# Altium integrated library Capacitor - Aluminium TH.IntLib: 4591 symbols (part 29 of 68)
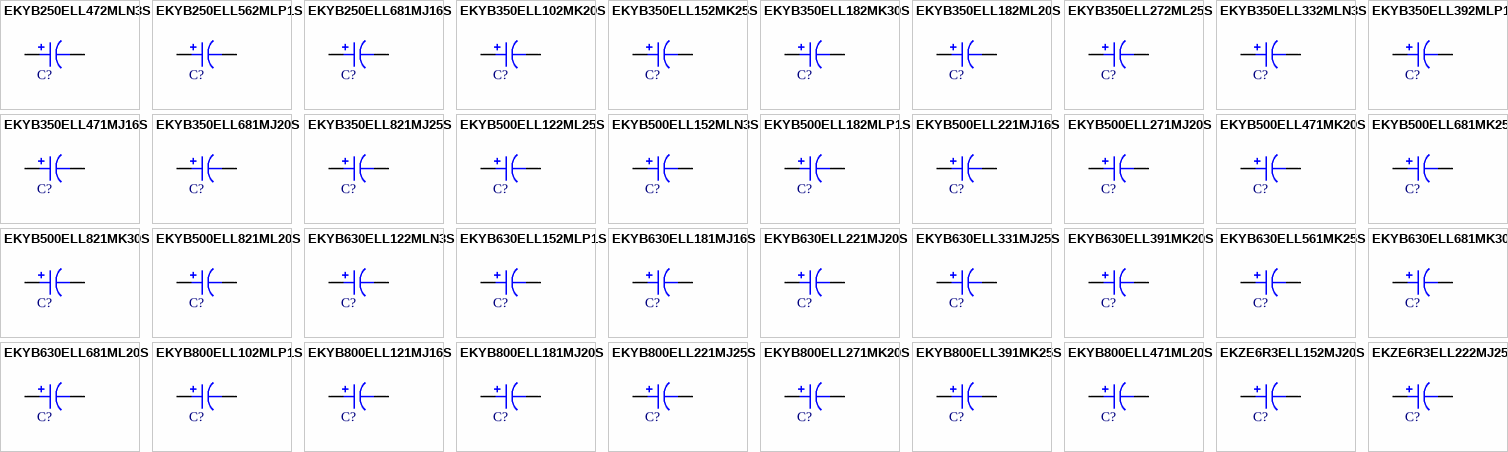
[diagram p142: symbols EKYB250ELL472MLN3S to EKZE6R3ELL222MJ25S]

## EKYB350ELL392MLP1S
designator C?, comment 3900uF  (value not drawn)
CAP ALUM 3900UF 20% 35V RADIAL; Part Number: EKYB350ELL392MLP1S; Manufacturer: United Chemi-Con; TemperatureRange: -40C ~ 105C; Type: Polar; Ripple Current: 3.06A @ 120Hz; Impedance: 14 mOhm; Value: 3900uF; PartId: 27393; Supplier 1: Digi-Key; Supplier Part Number 1: 565-3929-ND; ComponentLink1Description: Datasheet; ComponentLink1URL: http://www.chemi-con.co.jp/cgi-bin/CAT_DB/SEARCH/cat_db_al.cgi?e=e&j=p&pdfname=kyb; ComponentLink2Description: Digi-Key Listing; ComponentLink2URL: https://www.digikey.com/product-detail/en/united-chemi-con/EKYB350ELL392MLP1S/565-3929-ND/4843739; Tolerance: 20%; Voltage: 35V; Price: 1.97; Device Package: Radial, Can, 16mm
footprint CAP AL TH D16 L7.5 H37
pins: 1, 2

## EKYB350ELL471MJ16S
designator C?, comment 470uF  (value not drawn)
CAP ALUM 470UF 20% 35V RADIAL; Part Number: EKYB350ELL471MJ16S; Manufacturer: United Chemi-Con; TemperatureRange: -40C ~ 105C; Type: Polar; Ripple Current: 700mA @ 120Hz; Impedance: 49 mOhm; Value: 470uF; PartId: 25384; Supplier 1: Digi-Key; Supplier Part Number 1: 565-3915-ND; ComponentLink1Description: Datasheet; ComponentLink1URL: http://www.chemi-con.co.jp/cgi-bin/CAT_DB/SEARCH/cat_db_al.cgi?e=e&j=p&pdfname=kyb; ComponentLink2Description: Digi-Key Listing; ComponentLink2URL: https://www.digikey.com/product-detail/en/united-chemi-con/EKYB350ELL471MJ16S/565-3915-ND/4843725; Tolerance: 20%; Voltage: 35V; Price: 0.75; Device Package: Radial, Can, 10mm
footprint CAP AL TH D10 L5 H17.5
pins: 1, 2

## EKYB350ELL681MJ20S
designator C?, comment 680uF  (value not drawn)
CAP ALUM 680UF 20% 35V RADIAL; Part Number: EKYB350ELL681MJ20S; Manufacturer: United Chemi-Con; TemperatureRange: -40C ~ 105C; Type: Polar; Ripple Current: 990mA @ 120Hz; Impedance: 37 mOhm; Value: 680uF; PartId: 25644; Supplier 1: Digi-Key; Supplier Part Number 1: 565-3916-ND; ComponentLink1Description: Datasheet; ComponentLink1URL: http://www.chemi-con.co.jp/cgi-bin/CAT_DB/SEARCH/cat_db_al.cgi?e=e&j=p&pdfname=kyb; ComponentLink2Description: Digi-Key Listing; ComponentLink2URL: https://www.digikey.com/product-detail/en/united-chemi-con/EKYB350ELL681MJ20S/565-3916-ND/4843726; Tolerance: 20%; Voltage: 35V; Price: 0.74; Device Package: Radial, Can, 10mm
footprint CAP AL TH D10 L5 H22
pins: 1, 2

## EKYB350ELL821MJ25S
designator C?, comment 820uF  (value not drawn)
CAP ALUM 820UF 20% 35V RADIAL; Part Number: EKYB350ELL821MJ25S; Manufacturer: United Chemi-Con; TemperatureRange: -40C ~ 105C; Type: Polar; Ripple Current: 1.146A @ 120Hz; Impedance: 31 mOhm; Value: 820uF; PartId: 26082; Supplier 1: Digi-Key; Supplier Part Number 1: 565-3917-ND; ComponentLink1Description: Datasheet; ComponentLink1URL: http://www.chemi-con.co.jp/cgi-bin/CAT_DB/SEARCH/cat_db_al.cgi?e=e&j=p&pdfname=kyb; ComponentLink2Description: Digi-Key Listing; ComponentLink2URL: https://www.digikey.com/product-detail/en/united-chemi-con/EKYB350ELL821MJ25S/565-3917-ND/4843727; Tolerance: 20%; Voltage: 35V; Price: 0.72; Device Package: Radial, Can, 10mm
footprint CAP AL TH D10 L5 H30
pins: 1, 2

## EKYB500ELL122ML25S
designator C?, comment 1200uF  (value not drawn)
CAP ALUM 1200UF 20% 50V RADIAL; Part Number: EKYB500ELL122ML25S; Manufacturer: United Chemi-Con; TemperatureRange: -40C ~ 105C; Type: Polar; Ripple Current: 1.65A @ 120Hz; Impedance: 24 mOhm; Value: 1200uF; PartId: 26660; Supplier 1: Digi-Key; Supplier Part Number 1: 565-3950-ND; ComponentLink1Description: Datasheet; ComponentLink1URL: http://www.chemi-con.co.jp/cgi-bin/CAT_DB/SEARCH/cat_db_al.cgi?e=e&j=p&pdfname=kyb; ComponentLink2Description: Digi-Key Listing; ComponentLink2URL: https://www.digikey.com/product-detail/en/united-chemi-con/EKYB500ELL122ML25S/565-3950-ND/4843760; Tolerance: 20%; Voltage: 50V; Price: 1.61; Device Package: Radial, Can, 16mm
footprint CAP AL TH D16 L7.5 H26.5
pins: 1, 2

## EKYB500ELL152MLN3S
designator C?, comment 1500uF  (value not drawn)
CAP ALUM 1500UF 20% 50V RADIAL; Part Number: EKYB500ELL152MLN3S; Manufacturer: United Chemi-Con; TemperatureRange: -40C ~ 105C; Type: Polar; Ripple Current: 1.89A @ 120Hz; Impedance: 19 mOhm; Value: 1500uF; PartId: 27116; Supplier 1: Digi-Key; Supplier Part Number 1: 565-3951-ND; ComponentLink1Description: Datasheet; ComponentLink1URL: http://www.chemi-con.co.jp/cgi-bin/CAT_DB/SEARCH/cat_db_al.cgi?e=e&j=p&pdfname=kyb; ComponentLink2Description: Digi-Key Listing; ComponentLink2URL: https://www.digikey.com/product-detail/en/united-chemi-con/EKYB500ELL152MLN3S/565-3951-ND/4843761; Tolerance: 20%; Voltage: 50V; Price: 1.75; Device Package: Radial, Can, 16mm
footprint CAP AL TH D16 L7.5 H33.5
pins: 1, 2

## EKYB500ELL182MLP1S
designator C?, comment 1800uF  (value not drawn)
CAP ALUM 1800UF 20% 50V RADIAL; Part Number: EKYB500ELL182MLP1S; Manufacturer: United Chemi-Con; TemperatureRange: -40C ~ 105C; Type: Polar; Ripple Current: 2.13A @ 120Hz; Impedance: 16 mOhm; Value: 1800uF; PartId: 27395; Supplier 1: Digi-Key; Supplier Part Number 1: 565-3953-ND; ComponentLink1Description: Datasheet; ComponentLink1URL: http://www.chemi-con.co.jp/cgi-bin/CAT_DB/SEARCH/cat_db_al.cgi?e=e&j=p&pdfname=kyb; ComponentLink2Description: Digi-Key Listing; ComponentLink2URL: https://www.digikey.com/product-detail/en/united-chemi-con/EKYB500ELL182MLP1S/565-3953-ND/4843763; Tolerance: 20%; Voltage: 50V; Price: 1.98; Device Package: Radial, Can, 16mm
footprint CAP AL TH D16 L7.5 H37
pins: 1, 2

## EKYB500ELL221MJ16S
designator C?, comment 220uF  (value not drawn)
CAP ALUM 220UF 20% 50V RADIAL; Part Number: EKYB500ELL221MJ16S; Manufacturer: United Chemi-Con; TemperatureRange: -40C ~ 105C; Type: Polar; Ripple Current: 550mA @ 120Hz; Impedance: 69 mOhm; Value: 220uF; PartId: 25380; Supplier 1: Digi-Key; Supplier Part Number 1: 565-3939-ND; ComponentLink1Description: Datasheet; ComponentLink1URL: http://www.chemi-con.co.jp/cgi-bin/CAT_DB/SEARCH/cat_db_al.cgi?e=e&j=p&pdfname=kyb; ComponentLink2Description: Digi-Key Listing; ComponentLink2URL: https://www.digikey.com/product-detail/en/united-chemi-con/EKYB500ELL221MJ16S/565-3939-ND/4843749; Tolerance: 20%; Voltage: 50V; Price: 0.74; Device Package: Radial, Can, 10mm
footprint CAP AL TH D10 L5 H17.5
pins: 1, 2

## EKYB500ELL271MJ20S
designator C?, comment 270uF  (value not drawn)
CAP ALUM 270UF 20% 50V RADIAL; Part Number: EKYB500ELL271MJ20S; Manufacturer: United Chemi-Con; TemperatureRange: -40C ~ 105C; Type: Polar; Ripple Current: 650mA @ 120Hz; Impedance: 55 mOhm; Value: 270uF; PartId: 25642; Supplier 1: Digi-Key; Supplier Part Number 1: 565-3940-ND; ComponentLink1Description: Datasheet; ComponentLink1URL: http://www.chemi-con.co.jp/cgi-bin/CAT_DB/SEARCH/cat_db_al.cgi?e=e&j=p&pdfname=kyb; ComponentLink2Description: Digi-Key Listing; ComponentLink2URL: https://www.digikey.com/product-detail/en/united-chemi-con/EKYB500ELL271MJ20S/565-3940-ND/4843750; Tolerance: 20%; Voltage: 50V; Price: 0.73; Device Package: Radial, Can, 10mm
footprint CAP AL TH D10 L5 H22
pins: 1, 2

## EKYB500ELL471MK20S
designator C?, comment 470uF  (value not drawn)
CAP ALUM 470UF 20% 50V RADIAL; Part Number: EKYB500ELL471MK20S; Manufacturer: United Chemi-Con; TemperatureRange: -40C ~ 105C; Type: Polar; Ripple Current: 910mA @ 120Hz; Impedance: 34 mOhm; Value: 470uF; PartId: 22996; Supplier 1: Digi-Key; Supplier Part Number 1: 565-3943-ND; ComponentLink1Description: Datasheet; ComponentLink1URL: http://www.chemi-con.co.jp/cgi-bin/CAT_DB/SEARCH/cat_db_al.cgi?e=e&j=p&pdfname=kyb; ComponentLink2Description: Digi-Key Listing; ComponentLink2URL: https://www.digikey.com/product-detail/en/united-chemi-con/EKYB500ELL471MK20S/565-3943-ND/4843753; Tolerance: 20%; Voltage: 50V; Price: 0; Device Package: Radial, Can, 12.5mm
footprint CAP AL TH D12.5 L5 H21.5
pins: 1, 2

## EKYB500ELL681MK25S
designator C?, comment 680uF  (value not drawn)
CAP ALUM 680UF 20% 50V RADIAL; Part Number: EKYB500ELL681MK25S; Manufacturer: United Chemi-Con; TemperatureRange: -40C ~ 105C; Type: Polar; Ripple Current: 1.26A @ 120Hz; Impedance: 30 mOhm; Value: 680uF; PartId: 23704; Supplier 1: Digi-Key; Supplier Part Number 1: 565-3944-ND; ComponentLink1Description: Datasheet; ComponentLink1URL: http://www.chemi-con.co.jp/cgi-bin/CAT_DB/SEARCH/cat_db_al.cgi?e=e&j=p&pdfname=kyb; ComponentLink2Description: Digi-Key Listing; ComponentLink2URL: https://www.digikey.com/product-detail/en/united-chemi-con/EKYB500ELL681MK25S/565-3944-ND/4843754; Tolerance: 20%; Voltage: 50V; Price: 1.12; Device Package: Radial, Can, 12.5mm
footprint CAP AL TH D12.5 L5 H26.5
pins: 1, 2

## EKYB500ELL821MK30S
designator C?, comment 820uF  (value not drawn)
CAP ALUM 820UF 20% 50V RADIAL; Part Number: EKYB500ELL821MK30S; Manufacturer: United Chemi-Con; TemperatureRange: -40C ~ 105C; Type: Polar; Ripple Current: 1.47A @ 120Hz; Impedance: 25 mOhm; Value: 820uF; PartId: 24282; Supplier 1: Digi-Key; Supplier Part Number 1: 565-3945-ND; ComponentLink1Description: Datasheet; ComponentLink1URL: http://www.chemi-con.co.jp/cgi-bin/CAT_DB/SEARCH/cat_db_al.cgi?e=e&j=p&pdfname=kyb; ComponentLink2Description: Digi-Key Listing; ComponentLink2URL: https://www.digikey.com/product-detail/en/united-chemi-con/EKYB500ELL821MK30S/565-3945-ND/4843755; Tolerance: 20%; Voltage: 50V; Price: 1.1; Device Package: Radial, Can, 12.5mm
footprint CAP AL TH D12.5 L5 H35.5
pins: 1, 2

## EKYB500ELL821ML20S
designator C?, comment 820uF  (value not drawn)
CAP ALUM 820UF 20% 50V RADIAL; Part Number: EKYB500ELL821ML20S; Manufacturer: United Chemi-Con; TemperatureRange: -40C ~ 105C; Type: Polar; Ripple Current: 1.41A @ 120Hz; Impedance: 28 mOhm; Value: 820uF; PartId: 26427; Supplier 1: Digi-Key; Supplier Part Number 1: 565-3946-ND; ComponentLink1Description: Datasheet; ComponentLink1URL: http://www.chemi-con.co.jp/cgi-bin/CAT_DB/SEARCH/cat_db_al.cgi?e=e&j=p&pdfname=kyb; ComponentLink2Description: Digi-Key Listing; ComponentLink2URL: https://www.digikey.com/product-detail/en/united-chemi-con/EKYB500ELL821ML20S/565-3946-ND/4843756; Tolerance: 20%; Voltage: 50V; Price: 1.31; Device Package: Radial, Can, 16mm
footprint CAP AL TH D16 L7.5 H22
pins: 1, 2

## EKYB630ELL122MLN3S
designator C?, comment 1200uF  (value not drawn)
CAP ALUM 1200UF 20% 63V RADIAL; Part Number: EKYB630ELL122MLN3S; Manufacturer: United Chemi-Con; TemperatureRange: -40C ~ 105C; Type: Polar; Ripple Current: 1.8A @ 120Hz; Impedance: 20 mOhm; Value: 1200uF; PartId: 27171; Supplier 1: Digi-Key; Supplier Part Number 1: 565-3975-ND; ComponentLink1Description: Datasheet; ComponentLink1URL: http://www.chemi-con.co.jp/cgi-bin/CAT_DB/SEARCH/cat_db_al.cgi?e=e&j=p&pdfname=kyb; ComponentLink2Description: Digi-Key Listing; ComponentLink2URL: https://www.digikey.com/product-detail/en/united-chemi-con/EKYB630ELL122MLN3S/565-3975-ND/4843785; Tolerance: 20%; Voltage: 63V; Price: 1.9; Device Package: Radial, Can, 16mm
footprint CAP AL TH D16 L7.5 H33.5
pins: 1, 2

## EKYB630ELL152MLP1S
designator C?, comment 1500uF  (value not drawn)
CAP ALUM 1500UF 20% 63V RADIAL; Part Number: EKYB630ELL152MLP1S; Manufacturer: United Chemi-Con; TemperatureRange: -40C ~ 105C; Type: Polar; Ripple Current: 1.92A @ 120Hz; Impedance: 18 mOhm; Value: 1500uF; PartId: 27401; Supplier 1: Digi-Key; Supplier Part Number 1: 565-3977-ND; ComponentLink1Description: Datasheet; ComponentLink1URL: http://www.chemi-con.co.jp/cgi-bin/CAT_DB/SEARCH/cat_db_al.cgi?e=e&j=p&pdfname=kyb; ComponentLink2Description: Digi-Key Listing; ComponentLink2URL: https://www.digikey.com/product-detail/en/united-chemi-con/EKYB630ELL152MLP1S/565-3977-ND/4843787; Tolerance: 20%; Voltage: 63V; Price: 2.14; Device Package: Radial, Can, 16mm
footprint CAP AL TH D16 L7.5 H37
pins: 1, 2

## EKYB630ELL181MJ16S
designator C?, comment 180uF  (value not drawn)
CAP ALUM 180UF 20% 63V RADIAL; Part Number: EKYB630ELL181MJ16S; Manufacturer: United Chemi-Con; TemperatureRange: -40C ~ 105C; Type: Polar; Ripple Current: 420mA @ 120Hz; Impedance: 73 mOhm; Value: 180uF; PartId: 25378; Supplier 1: Digi-Key; Supplier Part Number 1: 565-3963-ND; ComponentLink1Description: Datasheet; ComponentLink1URL: http://www.chemi-con.co.jp/cgi-bin/CAT_DB/SEARCH/cat_db_al.cgi?e=e&j=p&pdfname=kyb; ComponentLink2Description: Digi-Key Listing; ComponentLink2URL: https://www.digikey.com/product-detail/en/united-chemi-con/EKYB630ELL181MJ16S/565-3963-ND/4843773; Tolerance: 20%; Voltage: 63V; Price: 0.73; Device Package: Radial, Can, 10mm
footprint CAP AL TH D10 L5 H17.5
pins: 1, 2

## EKYB630ELL221MJ20S
designator C?, comment 220uF  (value not drawn)
CAP ALUM 220UF 20% 63V RADIAL; Part Number: EKYB630ELL221MJ20S; Manufacturer: United Chemi-Con; TemperatureRange: -40C ~ 105C; Type: Polar; Ripple Current: 650mA @ 120Hz; Impedance: 55 mOhm; Value: 220uF; PartId: 25645; Supplier 1: Digi-Key; Supplier Part Number 1: 565-3964-ND; ComponentLink1Description: Datasheet; ComponentLink1URL: http://www.chemi-con.co.jp/cgi-bin/CAT_DB/SEARCH/cat_db_al.cgi?e=e&j=p&pdfname=kyb; ComponentLink2Description: Digi-Key Listing; ComponentLink2URL: https://www.digikey.com/product-detail/en/united-chemi-con/EKYB630ELL221MJ20S/565-3964-ND/4843774; Tolerance: 20%; Voltage: 63V; Price: 0.74; Device Package: Radial, Can, 10mm
footprint CAP AL TH D10 L5 H22
pins: 1, 2

## EKYB630ELL331MJ25S
designator C?, comment 330uF  (value not drawn)
CAP ALUM 330UF 20% 63V RADIAL; Part Number: EKYB630ELL331MJ25S; Manufacturer: United Chemi-Con; TemperatureRange: -40C ~ 105C; Type: Polar; Ripple Current: 775mA @ 120Hz; Impedance: 45 mOhm; Value: 330uF; PartId: 26071; Supplier 1: Digi-Key; Supplier Part Number 1: 565-3965-ND; ComponentLink1Description: Datasheet; ComponentLink1URL: http://www.chemi-con.co.jp/cgi-bin/CAT_DB/SEARCH/cat_db_al.cgi?e=e&j=p&pdfname=kyb; ComponentLink2Description: Digi-Key Listing; ComponentLink2URL: https://www.digikey.com/product-detail/en/united-chemi-con/EKYB630ELL331MJ25S/565-3965-ND/4843775; Tolerance: 20%; Voltage: 63V; Price: 0.7; Device Package: Radial, Can, 10mm
footprint CAP AL TH D10 L5 H30
pins: 1, 2

## EKYB630ELL391MK20S
designator C?, comment 390uF  (value not drawn)
CAP ALUM 390UF 20% 63V RADIAL; Part Number: EKYB630ELL391MK20S; Manufacturer: United Chemi-Con; TemperatureRange: -40C ~ 105C; Type: Polar; Ripple Current: 890mA @ 120Hz; Impedance: 36 mOhm; Value: 390uF; PartId: 23011; Supplier 1: Digi-Key; Supplier Part Number 1: 565-3967-ND; ComponentLink1Description: Datasheet; ComponentLink1URL: http://www.chemi-con.co.jp/cgi-bin/CAT_DB/SEARCH/cat_db_al.cgi?e=e&j=p&pdfname=kyb; ComponentLink2Description: Digi-Key Listing; ComponentLink2URL: https://www.digikey.com/product-detail/en/united-chemi-con/EKYB630ELL391MK20S/565-3967-ND/4843777; Tolerance: 20%; Voltage: 63V; Price: 0; Device Package: Radial, Can, 12.5mm
footprint CAP AL TH D12.5 L5 H21.5
pins: 1, 2

## EKYB630ELL561MK25S
designator C?, comment 560uF  (value not drawn)
CAP ALUM 560UF 20% 63V RADIAL; Part Number: EKYB630ELL561MK25S; Manufacturer: United Chemi-Con; TemperatureRange: -40C ~ 105C; Type: Polar; Ripple Current: 1.05A @ 120Hz; Impedance: 30 mOhm; Value: 560uF; PartId: 23694; Supplier 1: Digi-Key; Supplier Part Number 1: 565-3968-ND; ComponentLink1Description: Datasheet; ComponentLink1URL: http://www.chemi-con.co.jp/cgi-bin/CAT_DB/SEARCH/cat_db_al.cgi?e=e&j=p&pdfname=kyb; ComponentLink2Description: Digi-Key Listing; ComponentLink2URL: https://www.digikey.com/product-detail/en/united-chemi-con/EKYB630ELL561MK25S/565-3968-ND/4843778; Tolerance: 20%; Voltage: 63V; Price: 1.06; Device Package: Radial, Can, 12.5mm
footprint CAP AL TH D12.5 L5 H26.5
pins: 1, 2

## EKYB630ELL681MK30S
designator C?, comment 680uF  (value not drawn)
CAP ALUM 680UF 20% 63V RADIAL; Part Number: EKYB630ELL681MK30S; Manufacturer: United Chemi-Con; TemperatureRange: -40C ~ 105C; Type: Polar; Ripple Current: 1.449A @ 120Hz; Impedance: 26 mOhm; Value: 680uF; PartId: 24306; Supplier 1: Digi-Key; Supplier Part Number 1: 565-3969-ND; ComponentLink1Description: Datasheet; ComponentLink1URL: http://www.chemi-con.co.jp/cgi-bin/CAT_DB/SEARCH/cat_db_al.cgi?e=e&j=p&pdfname=kyb; ComponentLink2Description: Digi-Key Listing; ComponentLink2URL: https://www.digikey.com/product-detail/en/united-chemi-con/EKYB630ELL681MK30S/565-3969-ND/4843779; Tolerance: 20%; Voltage: 63V; Price: 1.22; Device Package: Radial, Can, 12.5mm
footprint CAP AL TH D12.5 L5 H35.5
pins: 1, 2

## EKYB630ELL681ML20S
designator C?, comment 680uF  (value not drawn)
CAP ALUM 680UF 20% 63V RADIAL; Part Number: EKYB630ELL681ML20S; Manufacturer: United Chemi-Con; TemperatureRange: -40C ~ 105C; Type: Polar; Ripple Current: 1.35A @ 120Hz; Impedance: 28 mOhm; Value: 680uF; PartId: 26452; Supplier 1: Digi-Key; Supplier Part Number 1: 565-3970-ND; ComponentLink1Description: Datasheet; ComponentLink1URL: http://www.chemi-con.co.jp/cgi-bin/CAT_DB/SEARCH/cat_db_al.cgi?e=e&j=p&pdfname=kyb; ComponentLink2Description: Digi-Key Listing; ComponentLink2URL: https://www.digikey.com/product-detail/en/united-chemi-con/EKYB630ELL681ML20S/565-3970-ND/4843780; Tolerance: 20%; Voltage: 63V; Price: 1.5; Device Package: Radial, Can, 16mm
footprint CAP AL TH D16 L7.5 H22
pins: 1, 2

## EKYB800ELL102MLP1S
designator C?, comment 1000uF  (value not drawn)
CAP ALUM 1000UF 20% 80V RADIAL; Part Number: EKYB800ELL102MLP1S; Manufacturer: United Chemi-Con; TemperatureRange: -40C ~ 105C; Type: Polar; Ripple Current: 1.56A @ 120Hz; Impedance: 20 mOhm; Value: 1000uF; PartId: 27407; Supplier 1: Digi-Key; Supplier Part Number 1: 565-4002-ND; ComponentLink1Description: Datasheet; ComponentLink1URL: http://www.chemi-con.co.jp/cgi-bin/CAT_DB/SEARCH/cat_db_al.cgi?e=e&j=p&pdfname=kyb; ComponentLink2Description: Digi-Key Listing; ComponentLink2URL: https://www.digikey.com/product-detail/en/united-chemi-con/EKYB800ELL102MLP1S/565-4002-ND/4843812; Tolerance: 20%; Voltage: 80V; Price: 2.28; Device Package: Radial, Can, 16mm
footprint CAP AL TH D16 L7.5 H37
pins: 1, 2

## EKYB800ELL121MJ16S
designator C?, comment 120uF  (value not drawn)
CAP ALUM 120UF 20% 80V RADIAL; Part Number: EKYB800ELL121MJ16S; Manufacturer: United Chemi-Con; TemperatureRange: -40C ~ 105C; Type: Polar; Ripple Current: 312mA @ 120Hz; Impedance: 100 mOhm; Value: 120uF; PartId: 25379; Supplier 1: Digi-Key; Supplier Part Number 1: 565-3988-ND; ComponentLink1Description: Datasheet; ComponentLink1URL: http://www.chemi-con.co.jp/cgi-bin/CAT_DB/SEARCH/cat_db_al.cgi?e=e&j=p&pdfname=kyb; ComponentLink2Description: Digi-Key Listing; ComponentLink2URL: https://www.digikey.com/product-detail/en/united-chemi-con/EKYB800ELL121MJ16S/565-3988-ND/4843798; Tolerance: 20%; Voltage: 80V; Price: 0.74; Device Package: Radial, Can, 10mm
footprint CAP AL TH D10 L5 H17.5
pins: 1, 2

## EKYB800ELL181MJ20S
designator C?, comment 180uF  (value not drawn)
CAP ALUM 180UF 20% 80V RADIAL; Part Number: EKYB800ELL181MJ20S; Manufacturer: United Chemi-Con; TemperatureRange: -40C ~ 105C; Type: Polar; Ripple Current: 416mA @ 120Hz; Impedance: 75 mOhm; Value: 180uF; PartId: 25651; Supplier 1: Digi-Key; Supplier Part Number 1: 565-3989-ND; ComponentLink1Description: Datasheet; ComponentLink1URL: http://www.chemi-con.co.jp/cgi-bin/CAT_DB/SEARCH/cat_db_al.cgi?e=e&j=p&pdfname=kyb; ComponentLink2Description: Digi-Key Listing; ComponentLink2URL: https://www.digikey.com/product-detail/en/united-chemi-con/EKYB800ELL181MJ20S/565-3989-ND/4843799; Tolerance: 20%; Voltage: 80V; Price: 0.74; Device Package: Radial, Can, 10mm
footprint CAP AL TH D10 L5 H22
pins: 1, 2

## EKYB800ELL221MJ25S
designator C?, comment 220uF  (value not drawn)
CAP ALUM 220UF 20% 80V RADIAL; Part Number: EKYB800ELL221MJ25S; Manufacturer: United Chemi-Con; TemperatureRange: -40C ~ 105C; Type: Polar; Ripple Current: 585mA @ 120Hz; Impedance: 60 mOhm; Value: 220uF; PartId: 26127; Supplier 1: Digi-Key; Supplier Part Number 1: 565-3990-ND; ComponentLink1Description: Datasheet; ComponentLink1URL: http://www.chemi-con.co.jp/cgi-bin/CAT_DB/SEARCH/cat_db_al.cgi?e=e&j=p&pdfname=kyb; ComponentLink2Description: Digi-Key Listing; ComponentLink2URL: https://www.digikey.com/product-detail/en/united-chemi-con/EKYB800ELL221MJ25S/565-3990-ND/4843800; Tolerance: 20%; Voltage: 80V; Price: 0.79; Device Package: Radial, Can, 10mm
footprint CAP AL TH D10 L5 H30
pins: 1, 2

## EKYB800ELL271MK20S
designator C?, comment 270uF  (value not drawn)
CAP ALUM 270UF 20% 80V RADIAL; Part Number: EKYB800ELL271MK20S; Manufacturer: United Chemi-Con; TemperatureRange: -40C ~ 105C; Type: Polar; Ripple Current: 715mA @ 120Hz; Impedance: 48 mOhm; Value: 270uF; PartId: 22992; Supplier 1: Digi-Key; Supplier Part Number 1: 565-3992-ND; ComponentLink1Description: Datasheet; ComponentLink1URL: http://www.chemi-con.co.jp/cgi-bin/CAT_DB/SEARCH/cat_db_al.cgi?e=e&j=p&pdfname=kyb; ComponentLink2Description: Digi-Key Listing; ComponentLink2URL: https://www.digikey.com/product-detail/en/united-chemi-con/EKYB800ELL271MK20S/565-3992-ND/4843802; Tolerance: 20%; Voltage: 80V; Price: 0; Device Package: Radial, Can, 12.5mm
footprint CAP AL TH D12.5 L5 H21.5
pins: 1, 2

## EKYB800ELL391MK25S
designator C?, comment 390uF  (value not drawn)
CAP ALUM 390UF 20% 80V RADIAL; Part Number: EKYB800ELL391MK25S; Manufacturer: United Chemi-Con; TemperatureRange: -40C ~ 105C; Type: Polar; Ripple Current: 810mA @ 120Hz; Impedance: 39 mOhm; Value: 390uF; PartId: 23668; Supplier 1: Digi-Key; Supplier Part Number 1: 565-3993-ND; ComponentLink1Description: Datasheet; ComponentLink1URL: http://www.chemi-con.co.jp/cgi-bin/CAT_DB/SEARCH/cat_db_al.cgi?e=e&j=p&pdfname=kyb; ComponentLink2Description: Digi-Key Listing; ComponentLink2URL: https://www.digikey.com/product-detail/en/united-chemi-con/EKYB800ELL391MK25S/565-3993-ND/4843803; Tolerance: 20%; Voltage: 80V; Price: 0.98; Device Package: Radial, Can, 12.5mm
footprint CAP AL TH D12.5 L5 H26.5
pins: 1, 2

## EKYB800ELL471ML20S
designator C?, comment 470uF  (value not drawn)
CAP ALUM 470UF 20% 80V RADIAL; Part Number: EKYB800ELL471ML20S; Manufacturer: United Chemi-Con; TemperatureRange: -40C ~ 105C; Type: Polar; Ripple Current: 875mA @ 120Hz; Impedance: 36 mOhm; Value: 470uF; PartId: 26426; Supplier 1: Digi-Key; Supplier Part Number 1: 565-3995-ND; ComponentLink1Description: Datasheet; ComponentLink1URL: http://www.chemi-con.co.jp/cgi-bin/CAT_DB/SEARCH/cat_db_al.cgi?e=e&j=p&pdfname=kyb; ComponentLink2Description: Digi-Key Listing; ComponentLink2URL: https://www.digikey.com/product-detail/en/united-chemi-con/EKYB800ELL471ML20S/565-3995-ND/4843805; Tolerance: 20%; Voltage: 80V; Price: 1.3; Device Package: Radial, Can, 16mm
footprint CAP AL TH D16 L7.5 H22
pins: 1, 2

## EKZE6R3ELL152MJ20S
designator C?, comment 1500uF  (value not drawn)
CAP ALUM 1500UF 20% 6.3V RADIAL; Part Number: EKZE6R3ELL152MJ20S; Manufacturer: United Chemi-Con; TemperatureRange: -40C ~ 105C; Type: Polar; Ripple Current: 1.092A @ 120Hz; Impedance: 23 mOhm; Value: 1500uF; PartId: 25545; Supplier 1: Digi-Key; Supplier Part Number 1: 565-1633-ND; ComponentLink1Description: Datasheet; ComponentLink1URL: http://www.chemi-con.co.jp/cgi-bin/CAT_DB/SEARCH/cat_db_al.cgi?e=e&j=p&pdfname=kze; ComponentLink2Description: Digi-Key Listing; ComponentLink2URL: https://www.digikey.com/product-detail/en/united-chemi-con/EKZE6R3ELL152MJ20S/565-1633-ND/756149; Tolerance: 20%; Voltage: 6.3V; Price: 0.63; Device Package: Radial, Can, 10mm
footprint CAP AL TH D10 L5 H22
pins: 1, 2

## EKZE6R3ELL222MJ25S
designator C?, comment 2200uF  (value not drawn)
CAP ALUM 2200UF 20% 6.3V RADIAL; Part Number: EKZE6R3ELL222MJ25S; Manufacturer: United Chemi-Con; TemperatureRange: -40C ~ 105C; Type: Polar; Ripple Current: 1.6125A @ 120Hz; Impedance: 22 mOhm; Value: 2200uF; PartId: 26120; Supplier 1: Digi-Key; Supplier Part Number 1: 565-1634-ND; ComponentLink1Description: Datasheet; ComponentLink1URL: http://www.chemi-con.co.jp/cgi-bin/CAT_DB/SEARCH/cat_db_al.cgi?e=e&j=p&pdfname=kze; ComponentLink2Description: Digi-Key Listing; ComponentLink2URL: https://www.digikey.com/product-detail/en/united-chemi-con/EKZE6R3ELL222MJ25S/565-1634-ND/756150; Tolerance: 20%; Voltage: 6.3V; Price: 0.78; Device Package: Radial, Can, 10mm
footprint CAP AL TH D10 L5 H30
pins: 1, 2

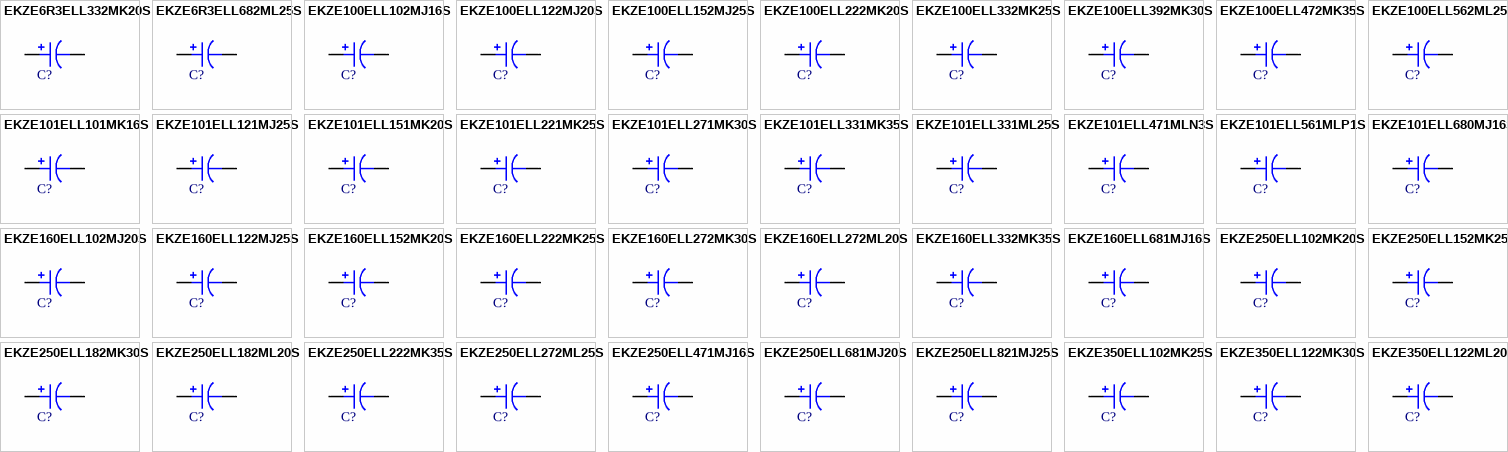
[diagram p47: symbols EKZE6R3ELL332MK20S to EKZE350ELL122ML20S]

## EKZE6R3ELL332MK20S
designator C?, comment 3300uF  (value not drawn)
CAP ALUM 3300UF 20% 6.3V RADIAL; Part Number: EKZE6R3ELL332MK20S; Manufacturer: United Chemi-Con; TemperatureRange: -40C ~ 105C; Type: Polar; Ripple Current: 1.77A @ 120Hz; Impedance: 21 mOhm; Value: 3300uF; PartId: 22929; Supplier 1: Digi-Key; Supplier Part Number 1: 565-1635-ND; ComponentLink1Description: Datasheet; ComponentLink1URL: http://www.chemi-con.co.jp/cgi-bin/CAT_DB/SEARCH/cat_db_al.cgi?e=e&j=p&pdfname=kze; ComponentLink2Description: Digi-Key Listing; ComponentLink2URL: https://www.digikey.com/product-detail/en/united-chemi-con/EKZE6R3ELL332MK20S/565-1635-ND/756151; Tolerance: 20%; Voltage: 6.3V; Price: 0; Device Package: Radial, Can, 12.5mm
footprint CAP AL TH D12.5 L5 H20
pins: 1, 2

## EKZE6R3ELL682ML25S
designator C?, comment 6800uF  (value not drawn)
CAP ALUM 6800UF 20% 6.3V RADIAL; Part Number: EKZE6R3ELL682ML25S; Manufacturer: United Chemi-Con; TemperatureRange: -40C ~ 105C; Type: Polar; Ripple Current: 2.941A @ 120Hz; Impedance: 16 mOhm; Value: 6800uF; PartId: 26655; Supplier 1: Digi-Key; Supplier Part Number 1: 565-1640-ND; ComponentLink1Description: Datasheet; ComponentLink1URL: http://www.chemi-con.co.jp/cgi-bin/CAT_DB/SEARCH/cat_db_al.cgi?e=e&j=p&pdfname=kze; ComponentLink2Description: Digi-Key Listing; ComponentLink2URL: https://www.digikey.com/product-detail/en/united-chemi-con/EKZE6R3ELL682ML25S/565-1640-ND/756156; Tolerance: 20%; Voltage: 6.3V; Price: 1.58; Device Package: Radial, Can, 16mm
footprint CAP AL TH D16 L7.5 H26.5
pins: 1, 2

## EKZE100ELL102MJ16S
designator C?, comment 1000uF  (value not drawn)
CAP ALUM 1000UF 20% 10V RADIAL; Part Number: EKZE100ELL102MJ16S; Manufacturer: United Chemi-Con; TemperatureRange: -40C ~ 105C; Type: Polar; Ripple Current: 858mA @ 120Hz; Impedance: 38 mOhm; Value: 1000uF; PartId: 25347; Supplier 1: Digi-Key; Supplier Part Number 1: 565-1646-ND; ComponentLink1Description: Datasheet; ComponentLink1URL: http://www.chemi-con.co.jp/cgi-bin/CAT_DB/SEARCH/cat_db_al.cgi?e=e&j=p&pdfname=kze; ComponentLink2Description: Digi-Key Listing; ComponentLink2URL: https://www.digikey.com/product-detail/en/united-chemi-con/EKZE100ELL102MJ16S/565-1646-ND/756162; Tolerance: 20%; Voltage: 10V; Price: 0.68; Device Package: Radial, Can, 10mm
footprint CAP AL TH D10 L5 H17.5
pins: 1, 2

## EKZE100ELL122MJ20S
designator C?, comment 1200uF  (value not drawn)
CAP ALUM 1200UF 20% 10V RADIAL; Part Number: EKZE100ELL122MJ20S; Manufacturer: United Chemi-Con; TemperatureRange: -40C ~ 105C; Type: Polar; Ripple Current: 1.092A @ 120Hz; Impedance: 23 mOhm; Value: 1200uF; PartId: 25537; Supplier 1: Digi-Key; Supplier Part Number 1: 565-1648-ND; ComponentLink1Description: Datasheet; ComponentLink1URL: http://www.chemi-con.co.jp/cgi-bin/CAT_DB/SEARCH/cat_db_al.cgi?e=e&j=p&pdfname=kze; ComponentLink2Description: Digi-Key Listing; ComponentLink2URL: https://www.digikey.com/product-detail/en/united-chemi-con/EKZE100ELL122MJ20S/565-1648-ND/756164; Tolerance: 20%; Voltage: 10V; Price: 0.62; Device Package: Radial, Can, 10mm
footprint CAP AL TH D10 L5 H22
pins: 1, 2

## EKZE100ELL152MJ25S
designator C?, comment 1500uF  (value not drawn)
CAP ALUM 1500UF 20% 10V RADIAL; Part Number: EKZE100ELL152MJ25S; Manufacturer: United Chemi-Con; TemperatureRange: -40C ~ 105C; Type: Polar; Ripple Current: 1.29A @ 120Hz; Impedance: 22 mOhm; Value: 1500uF; PartId: 26104; Supplier 1: Digi-Key; Supplier Part Number 1: 565-1649-ND; ComponentLink1Description: Datasheet; ComponentLink1URL: http://www.chemi-con.co.jp/cgi-bin/CAT_DB/SEARCH/cat_db_al.cgi?e=e&j=p&pdfname=kze; ComponentLink2Description: Digi-Key Listing; ComponentLink2URL: https://www.digikey.com/product-detail/en/united-chemi-con/EKZE100ELL152MJ25S/565-1649-ND/756165; Tolerance: 20%; Voltage: 10V; Price: 0.76; Device Package: Radial, Can, 10mm
footprint CAP AL TH D10 L5 H30
pins: 1, 2

## EKZE100ELL222MK20S
designator C?, comment 2200uF  (value not drawn)
CAP ALUM 2200UF 20% 10V RADIAL; Part Number: EKZE100ELL222MK20S; Manufacturer: United Chemi-Con; TemperatureRange: -40C ~ 105C; Type: Polar; Ripple Current: 1.77A @ 120Hz; Impedance: 21 mOhm; Value: 2200uF; PartId: 22921; Supplier 1: Digi-Key; Supplier Part Number 1: 565-1650-ND; ComponentLink1Description: Datasheet; ComponentLink1URL: http://www.chemi-con.co.jp/cgi-bin/CAT_DB/SEARCH/cat_db_al.cgi?e=e&j=p&pdfname=kze; ComponentLink2Description: Digi-Key Listing; ComponentLink2URL: https://www.digikey.com/product-detail/en/united-chemi-con/EKZE100ELL222MK20S/565-1650-ND/756166; Tolerance: 20%; Voltage: 10V; Price: 0; Device Package: Radial, Can, 12.5mm
footprint CAP AL TH D12.5 L5 H20
pins: 1, 2

## EKZE100ELL332MK25S
designator C?, comment 3300uF  (value not drawn)
CAP ALUM 3300UF 20% 10V RADIAL; Part Number: EKZE100ELL332MK25S; Manufacturer: United Chemi-Con; TemperatureRange: -40C ~ 105C; Type: Polar; Ripple Current: 2.0775A @ 120Hz; Impedance: 18 mOhm; Value: 3300uF; PartId: 23594; Supplier 1: Digi-Key; Supplier Part Number 1: 565-1651-ND; ComponentLink1Description: Datasheet; ComponentLink1URL: http://www.chemi-con.co.jp/cgi-bin/CAT_DB/SEARCH/cat_db_al.cgi?e=e&j=p&pdfname=kze; ComponentLink2Description: Digi-Key Listing; ComponentLink2URL: https://www.digikey.com/product-detail/en/united-chemi-con/EKZE100ELL332MK25S/565-1651-ND/756167; Tolerance: 20%; Voltage: 10V; Price: 1.03; Device Package: Radial, Can, 12.5mm
footprint CAP AL TH D12.5 L5 H25
pins: 1, 2

## EKZE100ELL392MK30S
designator C?, comment 3900uF  (value not drawn)
CAP ALUM 3900UF 20% 10V RADIAL; Part Number: EKZE100ELL392MK30S; Manufacturer: United Chemi-Con; TemperatureRange: -40C ~ 105C; Type: Polar; Ripple Current: 2.4675A @ 120Hz; Impedance: 16 mOhm; Value: 3900uF; PartId: 24291; Supplier 1: Digi-Key; Supplier Part Number 1: 565-1652-ND; ComponentLink1Description: Datasheet; ComponentLink1URL: http://www.chemi-con.co.jp/cgi-bin/CAT_DB/SEARCH/cat_db_al.cgi?e=e&j=p&pdfname=kze; ComponentLink2Description: Digi-Key Listing; ComponentLink2URL: https://www.digikey.com/product-detail/en/united-chemi-con/EKZE100ELL392MK30S/565-1652-ND/756168; Tolerance: 20%; Voltage: 10V; Price: 1.12; Device Package: Radial, Can, 12.5mm
footprint CAP AL TH D12.5 L5 H35.5
pins: 1, 2

## EKZE100ELL472MK35S
designator C?, comment 4700uF  (value not drawn)
CAP ALUM 4700UF 20% 10V RADIAL; Part Number: EKZE100ELL472MK35S; Manufacturer: United Chemi-Con; TemperatureRange: -40C ~ 105C; Type: Polar; Ripple Current: 2.89A @ 120Hz; Impedance: 15 mOhm; Value: 4700uF; PartId: 24313; Supplier 1: Digi-Key; Supplier Part Number 1: 565-1654-ND; ComponentLink1Description: Datasheet; ComponentLink1URL: http://www.chemi-con.co.jp/cgi-bin/CAT_DB/SEARCH/cat_db_al.cgi?e=e&j=p&pdfname=kze; ComponentLink2Description: Digi-Key Listing; ComponentLink2URL: https://www.digikey.com/product-detail/en/united-chemi-con/EKZE100ELL472MK35S/565-1654-ND/756170; Tolerance: 20%; Voltage: 10V; Price: 1.24; Device Package: Radial, Can, 12.5mm
footprint CAP AL TH D12.5 L5 H35.5
pins: 1, 2

## EKZE100ELL562ML25S
designator C?, comment 5600uF  (value not drawn)
CAP ALUM 5600UF 20% 10V RADIAL; Part Number: EKZE100ELL562ML25S; Manufacturer: United Chemi-Con; TemperatureRange: -40C ~ 105C; Type: Polar; Ripple Current: 2.941A @ 120Hz; Impedance: 16 mOhm; Value: 5600uF; PartId: 26667; Supplier 1: Digi-Key; Supplier Part Number 1: 565-1655-ND; ComponentLink1Description: Datasheet; ComponentLink1URL: http://www.chemi-con.co.jp/cgi-bin/CAT_DB/SEARCH/cat_db_al.cgi?e=e&j=p&pdfname=kze; ComponentLink2Description: Digi-Key Listing; ComponentLink2URL: https://www.digikey.com/product-detail/en/united-chemi-con/EKZE100ELL562ML25S/565-1655-ND/756171; Tolerance: 20%; Voltage: 10V; Price: 1.65; Device Package: Radial, Can, 16mm
footprint CAP AL TH D16 L7.5 H26.5
pins: 1, 2

## EKZE101ELL101MK16S
designator C?, comment 100uF  (value not drawn)
CAP ALUM 100UF 20% 100V RADIAL; Part Number: EKZE101ELL101MK16S; Manufacturer: United Chemi-Con; TemperatureRange: -40C ~ 105C; Type: Polar; Ripple Current: 300mA @ 120Hz; Impedance: 110 mOhm; Value: 100uF; PartId: 22762; Supplier 1: Digi-Key; Supplier Part Number 1: 565-1736-ND; ComponentLink1Description: Datasheet; ComponentLink1URL: http://www.chemi-con.co.jp/cgi-bin/CAT_DB/SEARCH/cat_db_al.cgi?e=e&j=p&pdfname=kze; ComponentLink2Description: Digi-Key Listing; ComponentLink2URL: https://www.digikey.com/product-detail/en/united-chemi-con/EKZE101ELL101MK16S/565-1736-ND/756252; Tolerance: 20%; Voltage: 100V; Price: 0; Device Package: Radial, Can, 12.5mm
footprint CAP AL TH D12.5 L5 H16.5
pins: 1, 2

## EKZE101ELL121MJ25S
designator C?, comment 120uF  (value not drawn)
CAP ALUM 120UF 20% 100V RADIAL; Part Number: EKZE101ELL121MJ25S; Manufacturer: United Chemi-Con; TemperatureRange: -40C ~ 105C; Type: Polar; Ripple Current: 360mA @ 120Hz; Impedance: 69 mOhm; Value: 120uF; PartId: 26141; Supplier 1: Digi-Key; Supplier Part Number 1: 565-1737-ND; ComponentLink1Description: Datasheet; ComponentLink1URL: http://www.chemi-con.co.jp/cgi-bin/CAT_DB/SEARCH/cat_db_al.cgi?e=e&j=p&pdfname=kze; ComponentLink2Description: Digi-Key Listing; ComponentLink2URL: https://www.digikey.com/product-detail/en/united-chemi-con/EKZE101ELL121MJ25S/565-1737-ND/756253; Tolerance: 20%; Voltage: 100V; Price: 0.83; Device Package: Radial, Can, 10mm
footprint CAP AL TH D10 L5 H30
pins: 1, 2

## EKZE101ELL151MK20S
designator C?, comment 150uF  (value not drawn)
CAP ALUM 150UF 20% 100V RADIAL; Part Number: EKZE101ELL151MK20S; Manufacturer: United Chemi-Con; TemperatureRange: -40C ~ 105C; Type: Polar; Ripple Current: 440mA @ 120Hz; Impedance: 62 mOhm; Value: 150uF; PartId: 22935; Supplier 1: Digi-Key; Supplier Part Number 1: 565-1738-ND; ComponentLink1Description: Datasheet; ComponentLink1URL: http://www.chemi-con.co.jp/cgi-bin/CAT_DB/SEARCH/cat_db_al.cgi?e=e&j=p&pdfname=kze; ComponentLink2Description: Digi-Key Listing; ComponentLink2URL: https://www.digikey.com/product-detail/en/united-chemi-con/EKZE101ELL151MK20S/565-1738-ND/756254; Tolerance: 20%; Voltage: 100V; Price: 0; Device Package: Radial, Can, 12.5mm
footprint CAP AL TH D12.5 L5 H20
pins: 1, 2

## EKZE101ELL221MK25S
designator C?, comment 220uF  (value not drawn)
CAP ALUM 220UF 20% 100V RADIAL; Part Number: EKZE101ELL221MK25S; Manufacturer: United Chemi-Con; TemperatureRange: -40C ~ 105C; Type: Polar; Ripple Current: 625mA @ 120Hz; Impedance: 47 mOhm; Value: 220uF; PartId: 23611; Supplier 1: Digi-Key; Supplier Part Number 1: 565-1739-ND; ComponentLink1Description: Datasheet; ComponentLink1URL: http://www.chemi-con.co.jp/cgi-bin/CAT_DB/SEARCH/cat_db_al.cgi?e=e&j=p&pdfname=kze; ComponentLink2Description: Digi-Key Listing; ComponentLink2URL: https://www.digikey.com/product-detail/en/united-chemi-con/EKZE101ELL221MK25S/565-1739-ND/756255; Tolerance: 20%; Voltage: 100V; Price: 1.12; Device Package: Radial, Can, 12.5mm
footprint CAP AL TH D12.5 L5 H25
pins: 1, 2

## EKZE101ELL271MK30S
designator C?, comment 270uF  (value not drawn)
CAP ALUM 270UF 20% 100V RADIAL; Part Number: EKZE101ELL271MK30S; Manufacturer: United Chemi-Con; TemperatureRange: -40C ~ 105C; Type: Polar; Ripple Current: 750mA @ 120Hz; Impedance: 42 mOhm; Value: 270uF; PartId: 24312; Supplier 1: Digi-Key; Supplier Part Number 1: 565-1740-ND; ComponentLink1Description: Datasheet; ComponentLink1URL: http://www.chemi-con.co.jp/cgi-bin/CAT_DB/SEARCH/cat_db_al.cgi?e=e&j=p&pdfname=kze; ComponentLink2Description: Digi-Key Listing; ComponentLink2URL: https://www.digikey.com/product-detail/en/united-chemi-con/EKZE101ELL271MK30S/565-1740-ND/756256; Tolerance: 20%; Voltage: 100V; Price: 1.24; Device Package: Radial, Can, 12.5mm
footprint CAP AL TH D12.5 L5 H35.5
pins: 1, 2

## EKZE101ELL331MK35S
designator C?, comment 330uF  (value not drawn)
CAP ALUM 330UF 20% 100V RADIAL; Part Number: EKZE101ELL331MK35S; Manufacturer: United Chemi-Con; TemperatureRange: -40C ~ 105C; Type: Polar; Ripple Current: 825mA @ 120Hz; Impedance: 36 mOhm; Value: 330uF; PartId: 24352; Supplier 1: Digi-Key; Supplier Part Number 1: 565-1741-ND; ComponentLink1Description: Datasheet; ComponentLink1URL: http://www.chemi-con.co.jp/cgi-bin/CAT_DB/SEARCH/cat_db_al.cgi?e=e&j=p&pdfname=kze; ComponentLink2Description: Digi-Key Listing; ComponentLink2URL: https://www.digikey.com/product-detail/en/united-chemi-con/EKZE101ELL331MK35S/565-1741-ND/756257; Tolerance: 20%; Voltage: 100V; Price: 1.41; Device Package: Radial, Can, 12.5mm
footprint CAP AL TH D12.5 L5 H35.5
pins: 1, 2

## EKZE101ELL331ML25S
designator C?, comment 330uF  (value not drawn)
CAP ALUM 330UF 20% 100V RADIAL; Part Number: EKZE101ELL331ML25S; Manufacturer: United Chemi-Con; TemperatureRange: -40C ~ 105C; Type: Polar; Ripple Current: 850mA @ 120Hz; Impedance: 38 mOhm; Value: 330uF; PartId: 26674; Supplier 1: Digi-Key; Supplier Part Number 1: 565-4234-ND; ComponentLink1Description: Datasheet; ComponentLink1URL: http://www.chemi-con.co.jp/cgi-bin/CAT_DB/SEARCH/cat_db_al.cgi?e=e&j=p&pdfname=kze; ComponentLink2Description: Digi-Key Listing; ComponentLink2URL: https://www.digikey.com/product-detail/en/united-chemi-con/EKZE101ELL331ML25S/565-4234-ND/4001430; Tolerance: 20%; Voltage: 100V; Price: 1.77; Device Package: Radial, Can, 16mm
footprint CAP AL TH D16 L7.5 H26.5
pins: 1, 2

## EKZE101ELL471MLN3S
designator C?, comment 470uF  (value not drawn)
CAP ALUM 470UF 20% 100V RADIAL; Part Number: EKZE101ELL471MLN3S; Manufacturer: United Chemi-Con; TemperatureRange: -40C ~ 105C; Type: Polar; Ripple Current: 925mA @ 120Hz; Impedance: 32 mOhm; Value: 470uF; PartId: 27180; Supplier 1: Digi-Key; Supplier Part Number 1: 565-3753-ND; ComponentLink1Description: Datasheet; ComponentLink1URL: http://www.chemi-con.co.jp/cgi-bin/CAT_DB/SEARCH/cat_db_al.cgi?e=e&j=p&pdfname=kze; ComponentLink2Description: Digi-Key Listing; ComponentLink2URL: https://www.digikey.com/product-detail/en/united-chemi-con/EKZE101ELL471MLN3S/565-3753-ND/4001432; Tolerance: 20%; Voltage: 100V; Price: 1.95; Device Package: Radial, Can, 16mm
footprint CAP AL TH D16 L7.5 H33.5
pins: 1, 2

## EKZE101ELL561MLP1S
designator C?, comment 560uF  (value not drawn)
CAP ALUM 560UF 20% 100V RADIAL; Part Number: EKZE101ELL561MLP1S; Manufacturer: United Chemi-Con; TemperatureRange: -40C ~ 105C; Type: Polar; Ripple Current: 1A @ 120Hz; Impedance: 29 mOhm; Value: 560uF; PartId: 27403; Supplier 1: Digi-Key; Supplier Part Number 1: 565-1744-ND; ComponentLink1Description: Datasheet; ComponentLink1URL: http://www.chemi-con.co.jp/cgi-bin/CAT_DB/SEARCH/cat_db_al.cgi?e=e&j=p&pdfname=kze; ComponentLink2Description: Digi-Key Listing; ComponentLink2URL: https://www.digikey.com/product-detail/en/united-chemi-con/EKZE101ELL561MLP1S/565-1744-ND/756260; Tolerance: 20%; Voltage: 100V; Price: 2.2; Device Package: Radial, Can, 16mm
footprint CAP AL TH D16 L7.5 H37
pins: 1, 2

## EKZE101ELL680MJ16S
designator C?, comment 68uF  (value not drawn)
CAP ALUM 68UF 20% 100V RADIAL; Part Number: EKZE101ELL680MJ16S; Manufacturer: United Chemi-Con; TemperatureRange: -40C ~ 105C; Type: Polar; Ripple Current: 240mA @ 120Hz; Impedance: 110 mOhm; Value: 68uF; PartId: 25367; Supplier 1: Digi-Key; Supplier Part Number 1: 565-1735-ND; ComponentLink1Description: Datasheet; ComponentLink1URL: http://www.chemi-con.co.jp/cgi-bin/CAT_DB/SEARCH/cat_db_al.cgi?e=e&j=p&pdfname=kze; ComponentLink2Description: Digi-Key Listing; ComponentLink2URL: https://www.digikey.com/product-detail/en/united-chemi-con/EKZE101ELL680MJ16S/565-1735-ND/756251; Tolerance: 20%; Voltage: 100V; Price: 0.72; Device Package: Radial, Can, 10mm
footprint CAP AL TH D10 L5 H17.5
pins: 1, 2

## EKZE160ELL102MJ20S
designator C?, comment 1000uF  (value not drawn)
CAP ALUM 1000UF 20% 16V RADIAL; Part Number: EKZE160ELL102MJ20S; Manufacturer: United Chemi-Con; TemperatureRange: -40C ~ 105C; Type: Polar; Ripple Current: 1.092A @ 120Hz; Impedance: 23 mOhm; Value: 1000uF; PartId: 25536; Supplier 1: Digi-Key; Supplier Part Number 1: 565-1664-ND; ComponentLink1Description: Datasheet; ComponentLink1URL: http://www.chemi-con.co.jp/cgi-bin/CAT_DB/SEARCH/cat_db_al.cgi?e=e&j=p&pdfname=kze; ComponentLink2Description: Digi-Key Listing; ComponentLink2URL: https://www.digikey.com/product-detail/en/united-chemi-con/EKZE160ELL102MJ20S/565-1664-ND/756180; Tolerance: 20%; Voltage: 16V; Price: 0.62; Device Package: Radial, Can, 10mm
footprint CAP AL TH D10 L5 H22
pins: 1, 2

## EKZE160ELL122MJ25S
designator C?, comment 1200uF  (value not drawn)
CAP ALUM 1200UF 20% 16V RADIAL; Part Number: EKZE160ELL122MJ25S; Manufacturer: United Chemi-Con; TemperatureRange: -40C ~ 105C; Type: Polar; Ripple Current: 1.29A @ 120Hz; Impedance: 22 mOhm; Value: 1200uF; PartId: 26113; Supplier 1: Digi-Key; Supplier Part Number 1: 565-1665-ND; ComponentLink1Description: Datasheet; ComponentLink1URL: http://www.chemi-con.co.jp/cgi-bin/CAT_DB/SEARCH/cat_db_al.cgi?e=e&j=p&pdfname=kze; ComponentLink2Description: Digi-Key Listing; ComponentLink2URL: https://www.digikey.com/product-detail/en/united-chemi-con/EKZE160ELL122MJ25S/565-1665-ND/756181; Tolerance: 20%; Voltage: 16V; Price: 0.77; Device Package: Radial, Can, 10mm
footprint CAP AL TH D10 L5 H30
pins: 1, 2

## EKZE160ELL152MK20S
designator C?, comment 1500uF  (value not drawn)
CAP ALUM 1500UF 20% 16V RADIAL; Part Number: EKZE160ELL152MK20S; Manufacturer: United Chemi-Con; TemperatureRange: -40C ~ 105C; Type: Polar; Ripple Current: 1.416A @ 120Hz; Impedance: 21 mOhm; Value: 1500uF; PartId: 22928; Supplier 1: Digi-Key; Supplier Part Number 1: 565-1666-ND; ComponentLink1Description: Datasheet; ComponentLink1URL: http://www.chemi-con.co.jp/cgi-bin/CAT_DB/SEARCH/cat_db_al.cgi?e=e&j=p&pdfname=kze; ComponentLink2Description: Digi-Key Listing; ComponentLink2URL: https://www.digikey.com/product-detail/en/united-chemi-con/EKZE160ELL152MK20S/565-1666-ND/756182; Tolerance: 20%; Voltage: 16V; Price: 0; Device Package: Radial, Can, 12.5mm
footprint CAP AL TH D12.5 L5 H20
pins: 1, 2

## EKZE160ELL222MK25S
designator C?, comment 2200uF  (value not drawn)
CAP ALUM 2200UF 20% 16V RADIAL; Part Number: EKZE160ELL222MK25S; Manufacturer: United Chemi-Con; TemperatureRange: -40C ~ 105C; Type: Polar; Ripple Current: 2.0775A @ 120Hz; Impedance: 18 mOhm; Value: 2200uF; PartId: 23588; Supplier 1: Digi-Key; Supplier Part Number 1: 565-1667-ND; ComponentLink1Description: Datasheet; ComponentLink1URL: http://www.chemi-con.co.jp/cgi-bin/CAT_DB/SEARCH/cat_db_al.cgi?e=e&j=p&pdfname=kze; ComponentLink2Description: Digi-Key Listing; ComponentLink2URL: https://www.digikey.com/product-detail/en/united-chemi-con/EKZE160ELL222MK25S/565-1667-ND/756183; Tolerance: 20%; Voltage: 16V; Price: 1.01; Device Package: Radial, Can, 12.5mm
footprint CAP AL TH D12.5 L5 H25
pins: 1, 2

## EKZE160ELL272MK30S
designator C?, comment 2700uF  (value not drawn)
CAP ALUM 2700UF 20% 16V RADIAL; Part Number: EKZE160ELL272MK30S; Manufacturer: United Chemi-Con; TemperatureRange: -40C ~ 105C; Type: Polar; Ripple Current: 2.4675A @ 120Hz; Impedance: 16 mOhm; Value: 2700uF; PartId: 24278; Supplier 1: Digi-Key; Supplier Part Number 1: 565-1668-ND; ComponentLink1Description: Datasheet; ComponentLink1URL: http://www.chemi-con.co.jp/cgi-bin/CAT_DB/SEARCH/cat_db_al.cgi?e=e&j=p&pdfname=kze; ComponentLink2Description: Digi-Key Listing; ComponentLink2URL: https://www.digikey.com/product-detail/en/united-chemi-con/EKZE160ELL272MK30S/565-1668-ND/756184; Tolerance: 20%; Voltage: 16V; Price: 1.09; Device Package: Radial, Can, 12.5mm
footprint CAP AL TH D12.5 L5 H35.5
pins: 1, 2

## EKZE160ELL272ML20S
designator C?, comment 2700uF  (value not drawn)
CAP ALUM 2700UF 20% 16V RADIAL; Part Number: EKZE160ELL272ML20S; Manufacturer: United Chemi-Con; TemperatureRange: -40C ~ 105C; Type: Polar; Ripple Current: 2.355A @ 120Hz; Impedance: 18 mOhm; Value: 2700uF; PartId: 26327; Supplier 1: Digi-Key; Supplier Part Number 1: 565-1669-ND; ComponentLink1Description: Datasheet; ComponentLink1URL: http://www.chemi-con.co.jp/cgi-bin/CAT_DB/SEARCH/cat_db_al.cgi?e=e&j=p&pdfname=kze; ComponentLink2Description: Digi-Key Listing; ComponentLink2URL: https://www.digikey.com/product-detail/en/united-chemi-con/EKZE160ELL272ML20S/565-1669-ND/756185; Tolerance: 20%; Voltage: 16V; Price: 1.33; Device Package: Radial, Can, 16mm
footprint CAP AL TH D16 L7.5 H20
pins: 1, 2

## EKZE160ELL332MK35S
designator C?, comment 3300uF  (value not drawn)
CAP ALUM 3300UF 20% 16V RADIAL; Part Number: EKZE160ELL332MK35S; Manufacturer: United Chemi-Con; TemperatureRange: -40C ~ 105C; Type: Polar; Ripple Current: 2.55A @ 120Hz; Impedance: 15 mOhm; Value: 3300uF; PartId: 24319; Supplier 1: Digi-Key; Supplier Part Number 1: 565-1670-ND; ComponentLink1Description: Datasheet; ComponentLink1URL: http://www.chemi-con.co.jp/cgi-bin/CAT_DB/SEARCH/cat_db_al.cgi?e=e&j=p&pdfname=kze; ComponentLink2Description: Digi-Key Listing; ComponentLink2URL: https://www.digikey.com/product-detail/en/united-chemi-con/EKZE160ELL332MK35S/565-1670-ND/756186; Tolerance: 20%; Voltage: 16V; Price: 1.25; Device Package: Radial, Can, 12.5mm
footprint CAP AL TH D12.5 L5 H35.5
pins: 1, 2

## EKZE160ELL681MJ16S
designator C?, comment 680uF  (value not drawn)
CAP ALUM 680UF 20% 16V RADIAL; Part Number: EKZE160ELL681MJ16S; Manufacturer: United Chemi-Con; TemperatureRange: -40C ~ 105C; Type: Polar; Ripple Current: 858mA @ 120Hz; Impedance: 38 mOhm; Value: 680uF; PartId: 25343; Supplier 1: Digi-Key; Supplier Part Number 1: 565-1662-ND; ComponentLink1Description: Datasheet; ComponentLink1URL: http://www.chemi-con.co.jp/cgi-bin/CAT_DB/SEARCH/cat_db_al.cgi?e=e&j=p&pdfname=kze; ComponentLink2Description: Digi-Key Listing; ComponentLink2URL: https://www.digikey.com/product-detail/en/united-chemi-con/EKZE160ELL681MJ16S/565-1662-ND/756178; Tolerance: 20%; Voltage: 16V; Price: 0.67; Device Package: Radial, Can, 10mm
footprint CAP AL TH D10 L5 H17.5
pins: 1, 2

## EKZE250ELL102MK20S
designator C?, comment 1000uF  (value not drawn)
CAP ALUM 1000UF 20% 25V RADIAL; Part Number: EKZE250ELL102MK20S; Manufacturer: United Chemi-Con; TemperatureRange: -40C ~ 105C; Type: Polar; Ripple Current: 1.416A @ 120Hz; Impedance: 21 mOhm; Value: 1000uF; PartId: 22927; Supplier 1: Digi-Key; Supplier Part Number 1: 565-1681-ND; ComponentLink1Description: Datasheet; ComponentLink1URL: http://www.chemi-con.co.jp/cgi-bin/CAT_DB/SEARCH/cat_db_al.cgi?e=e&j=p&pdfname=kze; ComponentLink2Description: Digi-Key Listing; ComponentLink2URL: https://www.digikey.com/product-detail/en/united-chemi-con/EKZE250ELL102MK20S/565-1681-ND/756197; Tolerance: 20%; Voltage: 25V; Price: 0; Device Package: Radial, Can, 12.5mm
footprint CAP AL TH D12.5 L5 H20
pins: 1, 2

## EKZE250ELL152MK25S
designator C?, comment 1500uF  (value not drawn)
CAP ALUM 1500UF 20% 25V RADIAL; Part Number: EKZE250ELL152MK25S; Manufacturer: United Chemi-Con; TemperatureRange: -40C ~ 105C; Type: Polar; Ripple Current: 1.662A @ 120Hz; Impedance: 18 mOhm; Value: 1500uF; PartId: 23585; Supplier 1: Digi-Key; Supplier Part Number 1: 565-1682-ND; ComponentLink1Description: Datasheet; ComponentLink1URL: http://www.chemi-con.co.jp/cgi-bin/CAT_DB/SEARCH/cat_db_al.cgi?e=e&j=p&pdfname=kze; ComponentLink2Description: Digi-Key Listing; ComponentLink2URL: https://www.digikey.com/product-detail/en/united-chemi-con/EKZE250ELL152MK25S/565-1682-ND/756198; Tolerance: 20%; Voltage: 25V; Price: 1; Device Package: Radial, Can, 12.5mm
footprint CAP AL TH D12.5 L5 H25
pins: 1, 2

## EKZE250ELL182MK30S
designator C?, comment 1800uF  (value not drawn)
CAP ALUM 1800UF 20% 25V RADIAL; Part Number: EKZE250ELL182MK30S; Manufacturer: United Chemi-Con; TemperatureRange: -40C ~ 105C; Type: Polar; Ripple Current: 1.974A @ 120Hz; Impedance: 16 mOhm; Value: 1800uF; PartId: 24281; Supplier 1: Digi-Key; Supplier Part Number 1: 565-1683-ND; ComponentLink1Description: Datasheet; ComponentLink1URL: http://www.chemi-con.co.jp/cgi-bin/CAT_DB/SEARCH/cat_db_al.cgi?e=e&j=p&pdfname=kze; ComponentLink2Description: Digi-Key Listing; ComponentLink2URL: https://www.digikey.com/product-detail/en/united-chemi-con/EKZE250ELL182MK30S/565-1683-ND/756199; Tolerance: 20%; Voltage: 25V; Price: 1.1; Device Package: Radial, Can, 12.5mm
footprint CAP AL TH D12.5 L5 H35.5
pins: 1, 2

## EKZE250ELL182ML20S
designator C?, comment 1800uF  (value not drawn)
CAP ALUM 1800UF 20% 25V RADIAL; Part Number: EKZE250ELL182ML20S; Manufacturer: United Chemi-Con; TemperatureRange: -40C ~ 105C; Type: Polar; Ripple Current: 1.884A @ 120Hz; Impedance: 18 mOhm; Value: 1800uF; PartId: 26330; Supplier 1: Digi-Key; Supplier Part Number 1: 565-1684-ND; ComponentLink1Description: Datasheet; ComponentLink1URL: http://www.chemi-con.co.jp/cgi-bin/CAT_DB/SEARCH/cat_db_al.cgi?e=e&j=p&pdfname=kze; ComponentLink2Description: Digi-Key Listing; ComponentLink2URL: https://www.digikey.com/product-detail/en/united-chemi-con/EKZE250ELL182ML20S/565-1684-ND/756200; Tolerance: 20%; Voltage: 25V; Price: 1.37; Device Package: Radial, Can, 16mm
footprint CAP AL TH D16 L7.5 H20
pins: 1, 2

## EKZE250ELL222MK35S
designator C?, comment 2200uF  (value not drawn)
CAP ALUM 2200UF 20% 25V RADIAL; Part Number: EKZE250ELL222MK35S; Manufacturer: United Chemi-Con; TemperatureRange: -40C ~ 105C; Type: Polar; Ripple Current: 2.55A @ 120Hz; Impedance: 15 mOhm; Value: 2200uF; PartId: 24309; Supplier 1: Digi-Key; Supplier Part Number 1: 565-1685-ND; ComponentLink1Description: Datasheet; ComponentLink1URL: http://www.chemi-con.co.jp/cgi-bin/CAT_DB/SEARCH/cat_db_al.cgi?e=e&j=p&pdfname=kze; ComponentLink2Description: Digi-Key Listing; ComponentLink2URL: https://www.digikey.com/product-detail/en/united-chemi-con/EKZE250ELL222MK35S/565-1685-ND/756201; Tolerance: 20%; Voltage: 25V; Price: 1.23; Device Package: Radial, Can, 12.5mm
footprint CAP AL TH D12.5 L5 H35.5
pins: 1, 2